# Altium footprint library USB A PCB Connector-Footprint-1.PcbLib: 1 footprints
Each footprint in its own frame and in the unit in brackets; x right, y up, seen from the top. Pads: shape width x height; smd on the part's side, far side on the other; paste and mask are expansions set on the pad; w line width, h text height; cw(c..) or ccw(c..) is an arc to the next point about the centre after c.
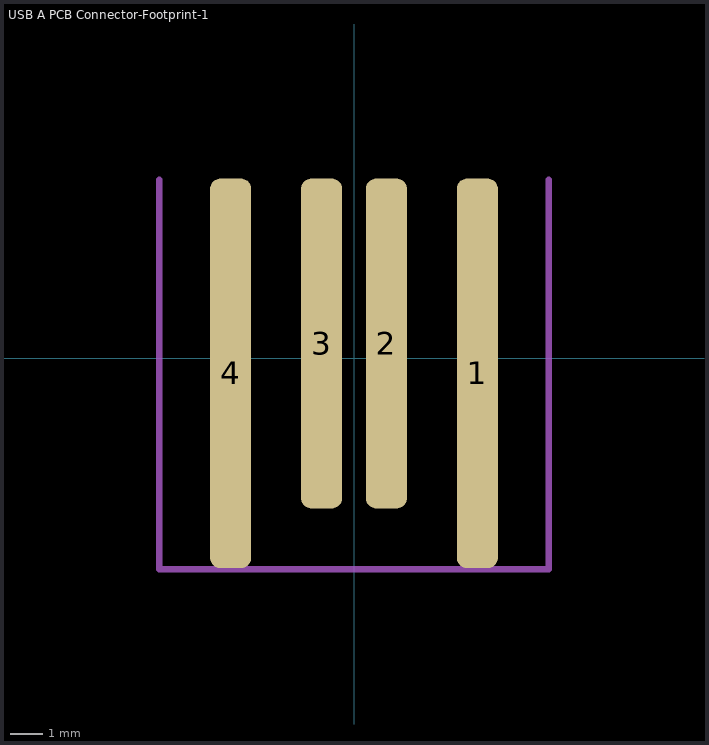
[diagram p0: the footprint, top view; thin cyan lines are the x and y axes]

## USB A PCB Connector-Footprint-1 [mm]
pads (4):
  rrect50% 1.27x12 smd: 1(3.8,-0.46) 4(-3.8,-0.46)
  rrect50% 1.27x10.16 smd: 2(1,0.46) 3(-1,0.46)
Mechanical 1:
  lines w0.2: -6,5.5 -6,-6.5 6,-6.5 6,5.5